# EAGLE library part LPC11U68 (library LPC11U68)
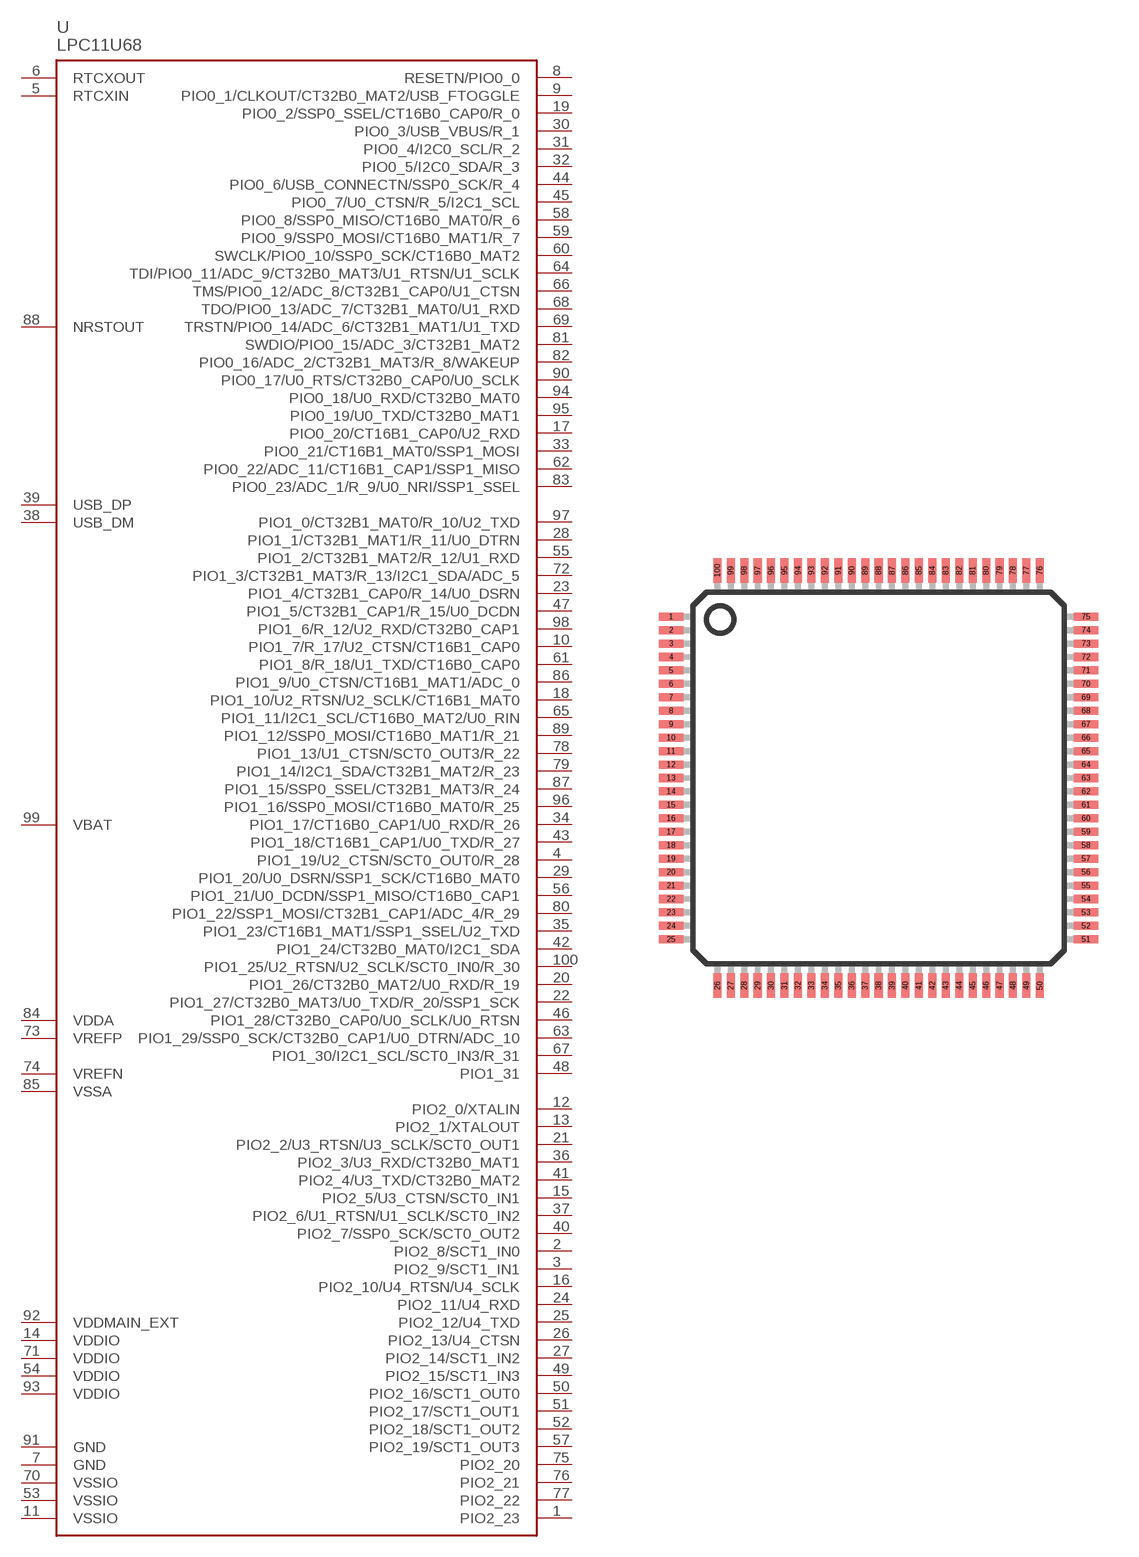
[diagram p0: symbol with the pads of LQFP100; footprint LQFP100]

Designator prefix U

## LPC11U68JBD100  [LQFP100]
1  PIO2_23
2  PIO2_8/SCT1_IN0
3  PIO2_9/SCT1_IN1
4  PIO1_19/U2_CTSN/SCT0_OUT0/R_28
5  RTCXIN
6  RTCXOUT
7  GND
8  RESETN/PIO0_0
9  PIO0_1/CLKOUT/CT32B0_MAT2/USB_FTOGGLE
10  PIO1_7/R_17/U2_CTSN/CT16B1_CAP0
11  VSSIO
12  PIO2_0/XTALIN
13  PIO2_1/XTALOUT
14  VDDIO
15  PIO2_5/U3_CTSN/SCT0_IN1
16  PIO2_10/U4_RTSN/U4_SCLK
17  PIO0_20/CT16B1_CAP0/U2_RXD
18  PIO1_10/U2_RTSN/U2_SCLK/CT16B1_MAT0
19  PIO0_2/SSP0_SSEL/CT16B0_CAP0/R_0
20  PIO1_26/CT32B0_MAT2/U0_RXD/R_19
21  PIO2_2/U3_RTSN/U3_SCLK/SCT0_OUT1
22  PIO1_27/CT32B0_MAT3/U0_TXD/R_20/SSP1_SCK
23  PIO1_4/CT32B1_CAP0/R_14/U0_DSRN
24  PIO2_11/U4_RXD
25  PIO2_12/U4_TXD
26  PIO2_13/U4_CTSN
27  PIO2_14/SCT1_IN2
28  PIO1_1/CT32B1_MAT1/R_11/U0_DTRN
29  PIO1_20/U0_DSRN/SSP1_SCK/CT16B0_MAT0
30  PIO0_3/USB_VBUS/R_1
31  PIO0_4/I2C0_SCL/R_2
32  PIO0_5/I2C0_SDA/R_3
33  PIO0_21/CT16B1_MAT0/SSP1_MOSI
34  PIO1_17/CT16B0_CAP1/U0_RXD/R_26
35  PIO1_23/CT16B1_MAT1/SSP1_SSEL/U2_TXD
36  PIO2_3/U3_RXD/CT32B0_MAT1
37  PIO2_6/U1_RTSN/U1_SCLK/SCT0_IN2
38  USB_DM
39  USB_DP
40  PIO2_7/SSP0_SCK/SCT0_OUT2
41  PIO2_4/U3_TXD/CT32B0_MAT2
42  PIO1_24/CT32B0_MAT0/I2C1_SDA
43  PIO1_18/CT16B1_CAP1/U0_TXD/R_27
44  PIO0_6/USB_CONNECTN/SSP0_SCK/R_4
45  PIO0_7/U0_CTSN/R_5/I2C1_SCL
46  PIO1_28/CT32B0_CAP0/U0_SCLK/U0_RTSN
47  PIO1_5/CT32B1_CAP1/R_15/U0_DCDN
48  PIO1_31
49  PIO2_15/SCT1_IN3
50  PIO2_16/SCT1_OUT0
51  PIO2_17/SCT1_OUT1
52  PIO2_18/SCT1_OUT2
53  VSSIO
54  VDDIO
55  PIO1_2/CT32B1_MAT2/R_12/U1_RXD
56  PIO1_21/U0_DCDN/SSP1_MISO/CT16B0_CAP1
57  PIO2_19/SCT1_OUT3
58  PIO0_8/SSP0_MISO/CT16B0_MAT0/R_6
59  PIO0_9/SSP0_MOSI/CT16B0_MAT1/R_7
60  SWCLK/PIO0_10/SSP0_SCK/CT16B0_MAT2
61  PIO1_8/R_18/U1_TXD/CT16B0_CAP0
62  PIO0_22/ADC_11/CT16B1_CAP1/SSP1_MISO
63  PIO1_29/SSP0_SCK/CT32B0_CAP1/U0_DTRN/ADC_10
64  TDI/PIO0_11/ADC_9/CT32B0_MAT3/U1_RTSN/U1_SCLK
65  PIO1_11/I2C1_SCL/CT16B0_MAT2/U0_RIN
66  TMS/PIO0_12/ADC_8/CT32B1_CAP0/U1_CTSN
67  PIO1_30/I2C1_SCL/SCT0_IN3/R_31
68  TDO/PIO0_13/ADC_7/CT32B1_MAT0/U1_RXD
69  TRSTN/PIO0_14/ADC_6/CT32B1_MAT1/U1_TXD
70  VSSIO
71  VDDIO
72  PIO1_3/CT32B1_MAT3/R_13/I2C1_SDA/ADC_5
73  VREFP
74  VREFN
75  PIO2_20
76  PIO2_21
77  PIO2_22
78  PIO1_13/U1_CTSN/SCT0_OUT3/R_22
79  PIO1_14/I2C1_SDA/CT32B1_MAT2/R_23
80  PIO1_22/SSP1_MOSI/CT32B1_CAP1/ADC_4/R_29
81  SWDIO/PIO0_15/ADC_3/CT32B1_MAT2
82  PIO0_16/ADC_2/CT32B1_MAT3/R_8/WAKEUP
83  PIO0_23/ADC_1/R_9/U0_NRI/SSP1_SSEL
84  VDDA
85  VSSA
86  PIO1_9/U0_CTSN/CT16B1_MAT1/ADC_0
87  PIO1_15/SSP0_SSEL/CT32B1_MAT3/R_24
88  NRSTOUT
89  PIO1_12/SSP0_MOSI/CT16B0_MAT1/R_21
90  PIO0_17/U0_RTS/CT32B0_CAP0/U0_SCLK
91  GND
92  VDDMAIN_EXT
93  VDDIO
94  PIO0_18/U0_RXD/CT32B0_MAT0
95  PIO0_19/U0_TXD/CT32B0_MAT1
96  PIO1_16/SSP0_MOSI/CT16B0_MAT0/R_25
97  PIO1_0/CT32B1_MAT0/R_10/U2_TXD
98  PIO1_6/R_12/U2_RXD/CT32B0_CAP1
99  VBAT
100  PIO1_25/U2_RTSN/U2_SCLK/SCT0_IN0/R_30

## Footprint LQFP100 (pad centres in mm)
Low Profile Quad Flat Pack
smd 0.9 x 0.3: 1 -7.72,6; 2 -7.72,5.5; 3 -7.72,5; 4 -7.72,4.5; 5 -7.72,4; 6 -7.72,3.5; 7 -7.72,3; 8 -7.72,2.5; 9 -7.72,2; 10 -7.72,1.5; 11 -7.72,1; 12 -7.72,0.5; 13 -7.72,0; 14 -7.72,-0.5; 15 -7.72,-1; 16 -7.72,-1.5; 17 -7.72,-2; 18 -7.72,-2.5; 19 -7.72,-3; 20 -7.72,-3.5; 21 -7.72,-4; 22 -7.72,-4.5; 23 -7.72,-5; 24 -7.72,-5.5; 25 -7.72,-6; 51 7.72,-6; 52 7.72,-5.5; 53 7.72,-5; 54 7.72,-4.5; 55 7.72,-4; 56 7.72,-3.5; 57 7.72,-3; 58 7.72,-2.5; 59 7.72,-2; 60 7.72,-1.5; 61 7.72,-1; 62 7.72,-0.5; 63 7.72,0; 64 7.72,0.5; 65 7.72,1; 66 7.72,1.5; 67 7.72,2; 68 7.72,2.5; 69 7.72,3; 70 7.72,3.5; 71 7.72,4; 72 7.72,4.5; 73 7.72,5; 74 7.72,5.5; 75 7.72,6
smd 0.3 x 0.9: 26 -6,-7.72; 27 -5.5,-7.72; 28 -5,-7.72; 29 -4.5,-7.72; 30 -4,-7.72; 31 -3.5,-7.72; 32 -3,-7.72; 33 -2.5,-7.72; 34 -2,-7.72; 35 -1.5,-7.72; 36 -1,-7.72; 37 -0.5,-7.72; 38 0,-7.72; 39 0.5,-7.72; 40 1,-7.72; 41 1.5,-7.72; 42 2,-7.72; 43 2.5,-7.72; 44 3,-7.72; 45 3.5,-7.72; 46 4,-7.72; 47 4.5,-7.72; 48 5,-7.72; 49 5.5,-7.72; 50 6,-7.72; 76 6,7.72; 77 5.5,7.72; 78 5,7.72; 79 4.5,7.72; 80 4,7.72; 81 3.5,7.72; 82 3,7.72; 83 2.5,7.72; 84 2,7.72; 85 1.5,7.72; 86 1,7.72; 87 0.5,7.72; 88 0,7.72; 89 -0.5,7.72; 90 -1,7.72; 91 -1.5,7.72; 92 -2,7.72; 93 -2.5,7.72; 94 -3,7.72; 95 -3.5,7.72; 96 -4,7.72; 97 -4.5,7.72; 98 -5,7.72; 99 -5.5,7.72; 100 -6,7.72